# EAGLE library part BTS5210G (library mosfet-infineon)
BTS5210G Smart High-Side Power Switch, Two Channels: 2x140mOhm, Status Feedback, PROFET SOIC127P600X175-14N-8
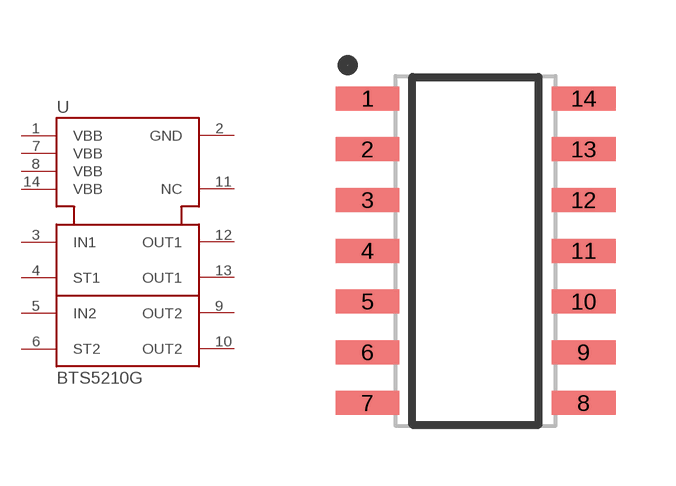
[diagram p30: symbol with the pads of SOIC127P600X175-14N-8; footprint SOIC127P600X175-14N-8]

Designator prefix U

## BTS5210G  [SOIC127P600X175-14N-8]
1  VBB  pwr
2  GND  pwr
3  IN1  in
4  ST1  oc
5  IN2  in
6  ST2  oc
7  VBB  pwr
8  VBB  pwr
9  OUT2  out
10  OUT2  out
11  NC  pas
12  OUT1  out
13  OUT1  out
14  VBB  pwr

## Footprint SOIC127P600X175-14N-8 (pad centres in mm)
Original name SOIC127P600X175-14N-8 Max Component Height - 1.75mm
smd 1.6 x 0.6: 1 -2.7,3.81; 2 -2.7,2.54; 3 -2.7,1.27; 4 -2.7,0; 5 -2.7,-1.27; 6 -2.7,-2.54; 7 -2.7,-3.81; 8 2.7,-3.81; 9 2.7,-2.54; 10 2.7,-1.27; 11 2.7,0; 12 2.7,1.27; 13 2.7,2.54; 14 2.7,3.81